# Altium schematic symbol library digital_mcu_milandr.SchLib: 5 symbols
Pins are listed as number, name and electrical type; pins without a type are passive.

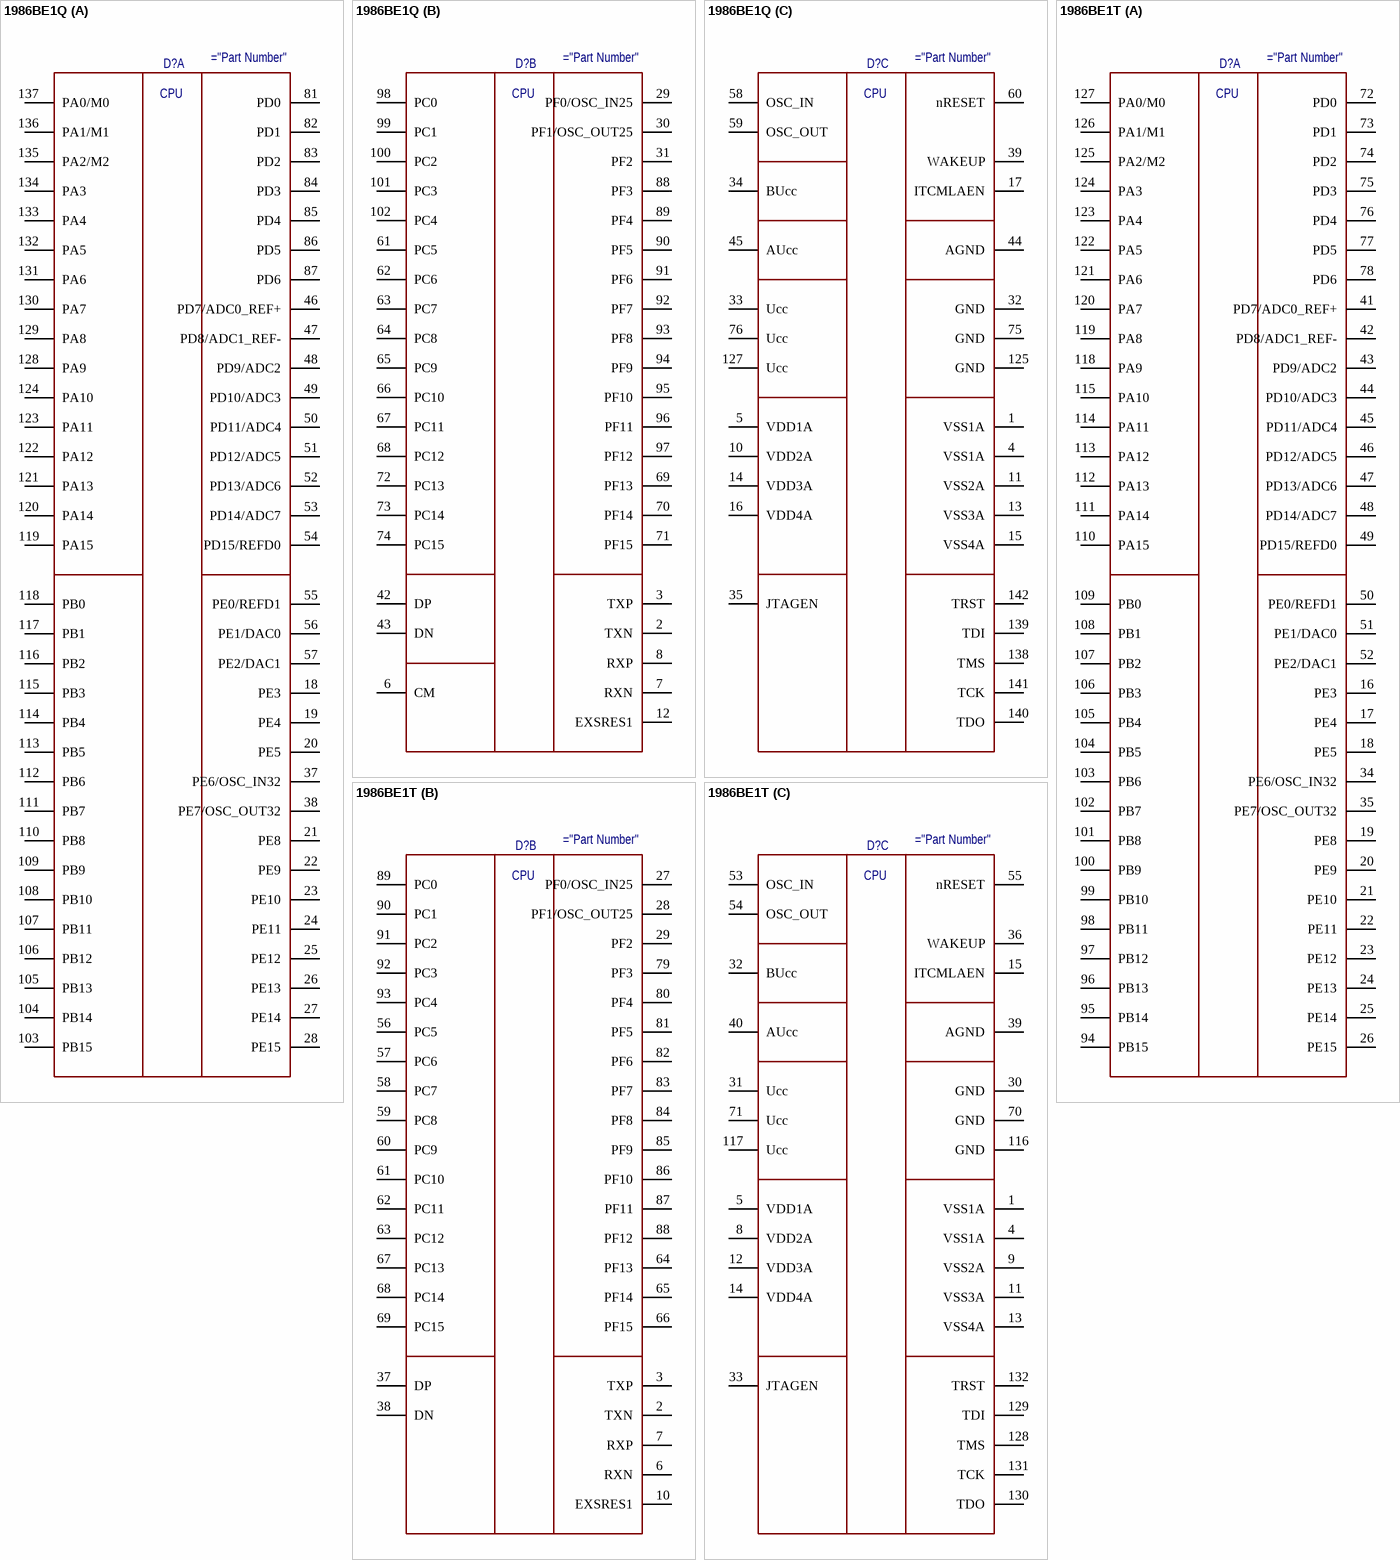
[diagram p0: symbols 1986ВЕ1Q to 1986ВЕ1Т]

## 1986ВЕ1Q
designator D?
MCU Cortex-M1
part A pins: 18 PE3, 19 PE4, 20 PE5, 21 PE8, 22 PE9, 23 PE10, 24 PE11, 25 PE12, 26 PE13, 27 PE14, 28 PE15, 37 PE6/OSC_IN32, 38 PE7/OSC_OUT32, 46 PD7/ADC0_REF+, 47 PD8/ADC1_REF-, 48 PD9/ADC2, 49 PD10/ADC3, 50 PD11/ADC4, 51 PD12/ADC5, 52 PD13/ADC6, 53 PD14/ADC7, 54 PD15/REFD0, 55 PE0/REFD1, 56 PE1/DAC0, 57 PE2/DAC1, 81 PD0, 82 PD1, 83 PD2, 84 PD3, 85 PD4, 86 PD5, 87 PD6, 103 PB15, 104 PB14, 105 PB13, 106 PB12, 107 PB11, 108 PB10, 109 PB9, 110 PB8, 111 PB7, 112 PB6, 113 PB5, 114 PB4, 115 PB3, 116 PB2, 117 PB1, 118 PB0, 119 PA15, 120 PA14, 121 PA13, 122 PA12, 123 PA11, 124 PA10, 128 PA9, 129 PA8, 130 PA7, 131 PA6, 132 PA5, 133 PA4, 134 PA3, 135 PA2/M2, 136 PA1/M1, 137 PA0/M0
part B pins: 2 TXN, 3 TXP, 6 CM, 7 RXN, 8 RXP, 12 EXSRES1, 29 PF0/OSC_IN25, 30 PF1/OSC_OUT25, 31 PF2, 42 DP, 43 DN, 61 PC5, 62 PC6, 63 PC7, 64 PC8, 65 PC9, 66 PC10, 67 PC11, 68 PC12, 69 PF13, 70 PF14, 71 PF15, 72 PC13, 73 PC14, 74 PC15, 88 PF3, 89 PF4, 90 PF5, 91 PF6, 92 PF7, 93 PF8, 94 PF9, 95 PF10, 96 PF11, 97 PF12, 98 PC0, 99 PC1, 100 PC2, 101 PC3, 102 PC4
part C pins: 1 VSS1A (power), 4 VSS1A (power), 5 VDD1A (power), 9 NC (power) hidden, 10 VDD2A (power), 11 VSS2A (power), 13 VSS3A (power), 14 VDD3A (power), 15 VSS4A (power), 16 VDD4A (power), 17 ITCMLAEN, 32 GND (power), 33 Ucc (power), 34 BUcc (power), 35 JTAGEN, 36 NC (power) hidden, 39 WAKEUP, 40 NC (power) hidden, 41 NC (power) hidden, 44 AGND (power), 45 AUcc (power), 58 OSC_IN, 59 OSC_OUT, 60 nRESET, 75 GND (power), 76 Ucc (power), 77 NC (power) hidden, 78 NC (power) hidden, 79 NC (power) hidden, 80 NC (power) hidden, 125 GND (power), 126 NC (power) hidden, 127 Ucc (power), 138 TMS, 139 TDI, 140 TDO, 141 TCK, 142 TRST
part A text: CPU
part B text: CPU
part C text: CPU

## 1986ВЕ1Т
designator D?
MCU Cortex-M1
part A pins: 16 PE3, 17 PE4, 18 PE5, 19 PE8, 20 PE9, 21 PE10, 22 PE11, 23 PE12, 24 PE13, 25 PE14, 26 PE15, 34 PE6/OSC_IN32, 35 PE7/OSC_OUT32, 41 PD7/ADC0_REF+, 42 PD8/ADC1_REF-, 43 PD9/ADC2, 44 PD10/ADC3, 45 PD11/ADC4, 46 PD12/ADC5, 47 PD13/ADC6, 48 PD14/ADC7, 49 PD15/REFD0, 50 PE0/REFD1, 51 PE1/DAC0, 52 PE2/DAC1, 72 PD0, 73 PD1, 74 PD2, 75 PD3, 76 PD4, 77 PD5, 78 PD6, 94 PB15, 95 PB14, 96 PB13, 97 PB12, 98 PB11, 99 PB10, 100 PB9, 101 PB8, 102 PB7, 103 PB6, 104 PB5, 105 PB4, 106 PB3, 107 PB2, 108 PB1, 109 PB0, 110 PA15, 111 PA14, 112 PA13, 113 PA12, 114 PA11, 115 PA10, 118 PA9, 119 PA8, 120 PA7, 121 PA6, 122 PA5, 123 PA4, 124 PA3, 125 PA2/M2, 126 PA1/M1, 127 PA0/M0
part B pins: 2 TXN, 3 TXP, 6 RXN, 7 RXP, 10 EXSRES1, 27 PF0/OSC_IN25, 28 PF1/OSC_OUT25, 29 PF2, 37 DP, 38 DN, 56 PC5, 57 PC6, 58 PC7, 59 PC8, 60 PC9, 61 PC10, 62 PC11, 63 PC12, 64 PF13, 65 PF14, 66 PF15, 67 PC13, 68 PC14, 69 PC15, 79 PF3, 80 PF4, 81 PF5, 82 PF6, 83 PF7, 84 PF8, 85 PF9, 86 PF10, 87 PF11, 88 PF12, 89 PC0, 90 PC1, 91 PC2, 92 PC3, 93 PC4
part C pins: 1 VSS1A (power), 4 VSS1A (power), 5 VDD1A (power), 8 VDD2A (power), 9 VSS2A (power), 11 VSS3A (power), 12 VDD3A (power), 13 VSS4A (power), 14 VDD4A (power), 15 ITCMLAEN, 30 GND (power), 31 Ucc (power), 32 BUcc (power), 33 JTAGEN, 36 WAKEUP, 39 AGND (power), 40 AUcc (power), 53 OSC_IN, 54 OSC_OUT, 55 nRESET, 70 GND (power), 71 Ucc (power), 116 GND (power), 117 Ucc (power), 128 TMS, 129 TDI, 130 TDO, 131 TCK, 132 TRST
part A text: CPU
part B text: CPU
part C text: CPU

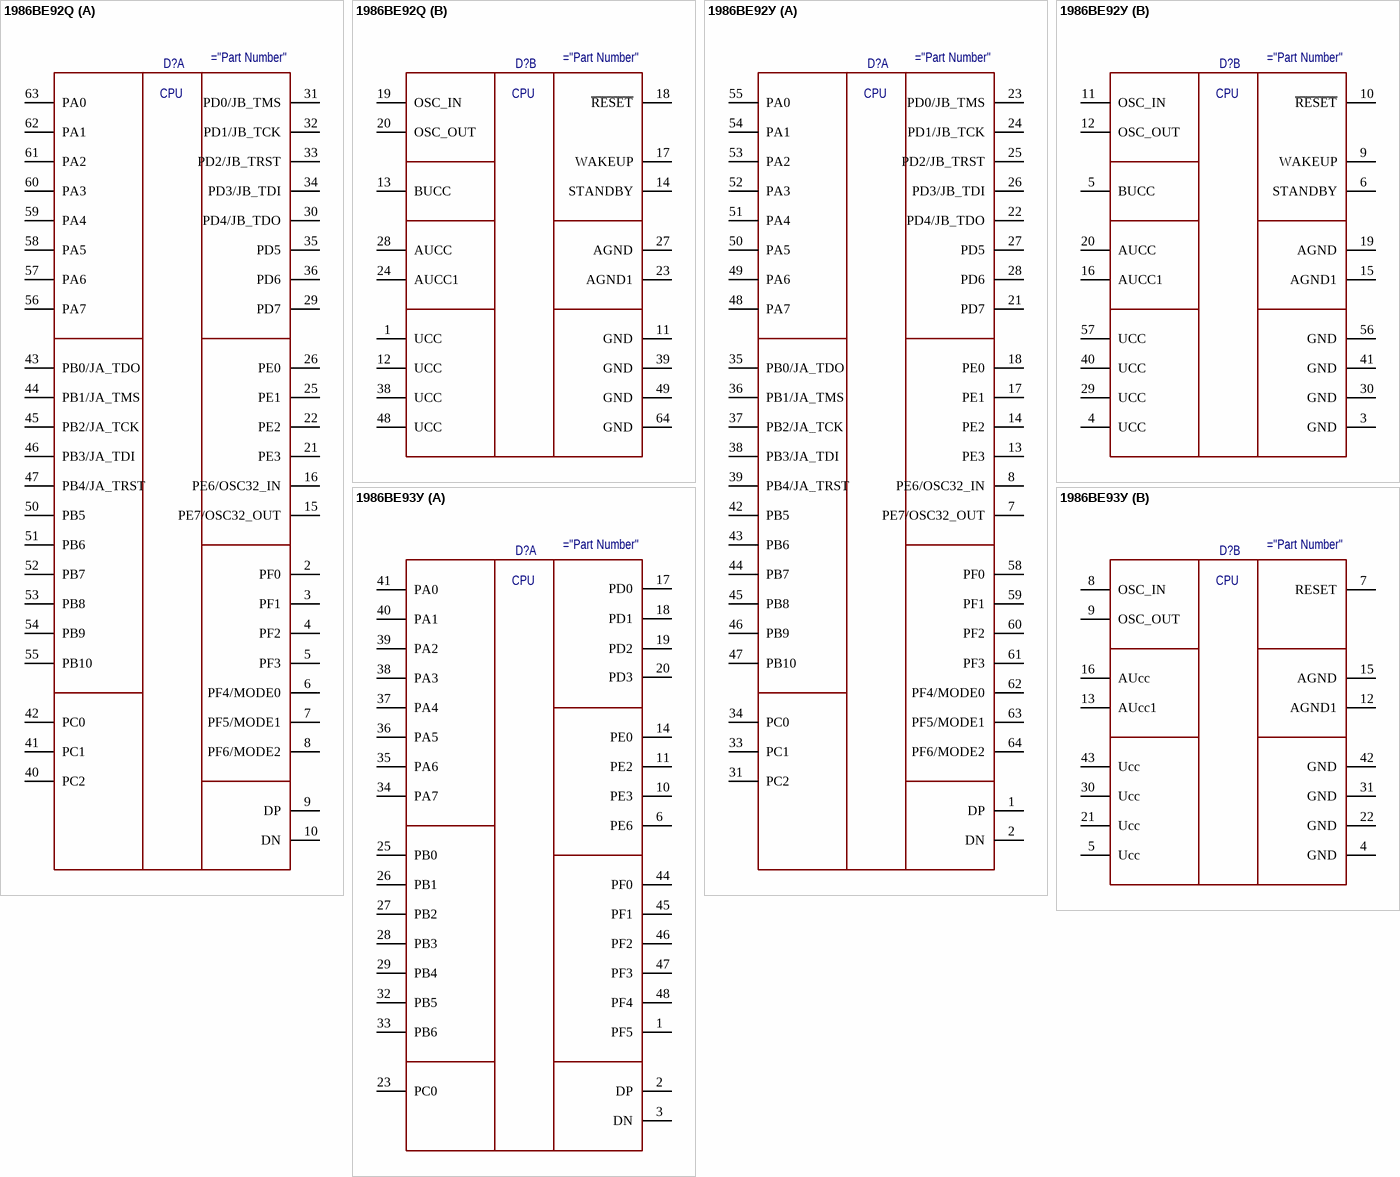
[diagram p1: symbols 1986ВЕ92Q to 1986ВЕ93У]

## 1986ВЕ92Q
designator D?
MCU Cortex-M3
part A pins: 2 PF0, 3 PF1, 4 PF2, 5 PF3, 6 PF4/MODE0, 7 PF5/MODE1, 8 PF6/MODE2, 9 DP, 10 DN, 15 PE7/OSC32_OUT, 16 PE6/OSC32_IN, 21 PE3, 22 PE2, 25 PE1, 26 PE0, 29 PD7, 30 PD4/JB_TDO, 31 PD0/JB_TMS, 32 PD1/JB_TCK, 33 PD2/JB_TRST, 34 PD3/JB_TDI, 35 PD5, 36 PD6, 37 NC hidden, 40 PC2, 41 PC1, 42 PC0, 43 PB0/JA_TDO, 44 PB1/JA_TMS, 45 PB2/JA_TCK, 46 PB3/JA_TDI, 47 PB4/JA_TRST, 50 PB5, 51 PB6, 52 PB7, 53 PB8, 54 PB9, 55 PB10, 56 PA7, 57 PA6, 58 PA5, 59 PA4, 60 PA3, 61 PA2, 62 PA1, 63 PA0
part B pins: 1 UCC, 11 GND, 12 UCC, 13 BUCC, 14 STANDBY, 17 WAKEUP, 18 ~{RESET}, 19 OSC_IN, 20 OSC_OUT, 23 AGND1, 24 AUCC1, 27 AGND, 28 AUCC, 38 UCC, 39 GND, 48 UCC, 49 GND, 64 GND
part A text: CPU
part B text: CPU

## 1986ВЕ92У
designator D?
MCU Cortex-M3
part A pins: 1 DP, 2 DN, 7 PE7/OSC32_OUT, 8 PE6/OSC32_IN, 13 PE3, 14 PE2, 17 PE1, 18 PE0, 21 PD7, 22 PD4/JB_TDO, 23 PD0/JB_TMS, 24 PD1/JB_TCK, 25 PD2/JB_TRST, 26 PD3/JB_TDI, 27 PD5, 28 PD6, 31 PC2, 32 NC hidden, 33 PC1, 34 PC0, 35 PB0/JA_TDO, 36 PB1/JA_TMS, 37 PB2/JA_TCK, 38 PB3/JA_TDI, 39 PB4/JA_TRST, 42 PB5, 43 PB6, 44 PB7, 45 PB8, 46 PB9, 47 PB10, 48 PA7, 49 PA6, 50 PA5, 51 PA4, 52 PA3, 53 PA2, 54 PA1, 55 PA0, 58 PF0, 59 PF1, 60 PF2, 61 PF3, 62 PF4/MODE0, 63 PF5/MODE1, 64 PF6/MODE2
part B pins: 3 GND, 4 UCC, 5 BUCC, 6 STANDBY, 9 WAKEUP, 10 ~{RESET}, 11 OSC_IN, 12 OSC_OUT, 15 AGND1, 16 AUCC1, 19 AGND, 20 AUCC, 29 UCC, 30 GND, 40 UCC, 41 GND, 56 GND, 57 UCC
part A text: CPU
part B text: CPU

## 1986ВЕ93У
designator D?
MCU Cortex-M3
part A pins: 1 PF5, 2 DP, 3 DN, 6 PE6, 10 PE3, 11 PE2, 14 PE0, 17 PD0, 18 PD1, 19 PD2, 20 PD3, 23 PC0, 25 PB0, 26 PB1, 27 PB2, 28 PB3, 29 PB4, 32 PB5, 33 PB6, 34 PA7, 35 PA6, 36 PA5, 37 PA4, 38 PA3, 39 PA2, 40 PA1, 41 PA0, 44 PF0, 45 PF1, 46 PF2, 47 PF3, 48 PF4
part B pins: 4 GND, 5 Ucc, 7 RESET, 8 OSC_IN, 9 OSC_OUT, 12 AGND1, 13 AUcc1, 15 AGND, 16 AUcc, 21 Ucc, 22 GND, 30 Ucc, 31 GND, 42 GND, 43 Ucc
part A text: CPU
part B text: CPU